# EAGLE library part XBEE (library lib_paul)
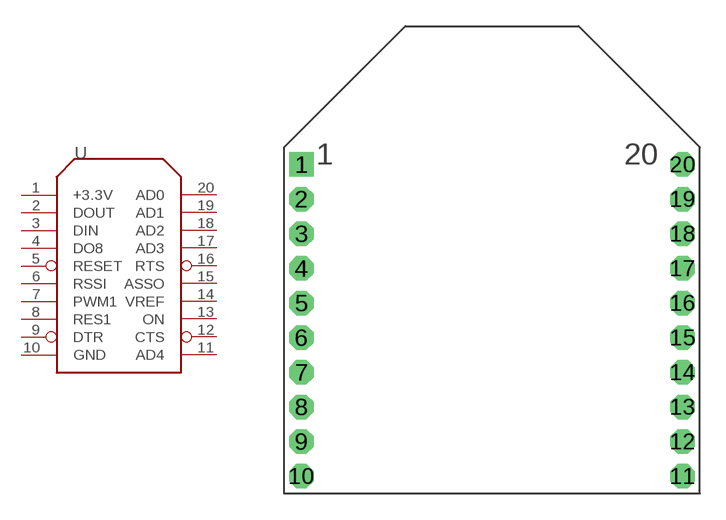
[diagram p0: symbol with the pads of XBEE; footprint XBEE]

Designator prefix -

## XBEE-SOIC  [XBEE]
1  +3.3V  pwr
2  DOUT  out
3  DIN  in
4  DO8  out
5  RESET  in
6  RSSI  out
7  PWM1  out
8  RES1  nc
9  DTR  in
10  GND  pwr
11  AD4
12  CTS
13  ON  out
14  VREF  in
15  ASSO
16  RTS
17  AD3
18  AD2
19  AD1
20  AD0

## Footprint XBEE (pad centres in mm)
drill 0.8 pad 1.422 square: 1 -11,0
drill 0.8 pad 1.422 octagon: 2 -11,-2; 3 -11,-4; 4 -11,-6; 5 -11,-8; 6 -11,-10; 7 -11,-12; 8 -11,-14; 9 -11,-16; 10 -11,-18; 11 11,-18; 12 11,-16; 13 11,-14; 14 11,-12; 15 11,-10; 16 11,-8; 17 11,-6; 18 11,-4; 19 11,-2; 20 11,0